# Altium schematic symbol library SCH - MCU - ATTINY - MICROCHIP ATTINY814-SSNRES SOIC14.SchLib: 1 symbol
Pins are listed as number, name and electrical type; pins without a type are passive.

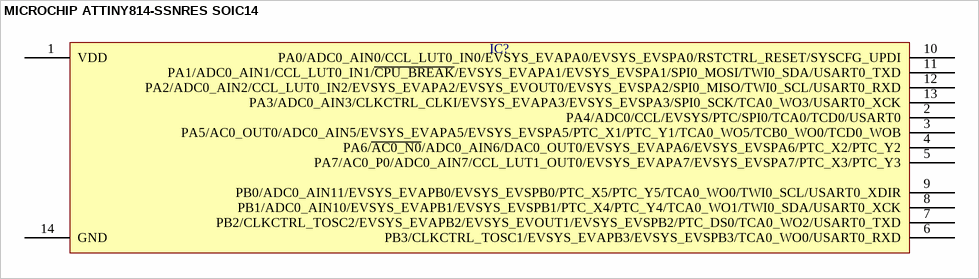
[diagram p0: symbol MICROCHIP ATTINY814-SSNRES SOIC14]

## MICROCHIP ATTINY814-SSNRES SOIC14
designator IC?  (value not drawn)
pins: 1 VDD, 2 PA4/ADC0/CCL/EVSYS/PTC/SPI0/TCA0/TCD0/USART0, 3 PA5/AC0_OUT0/ADC0_AIN5/EVSYS_EVAPA5/EVSYS_EVSPA5/PTC_X1/PTC_Y1/TCA0_WO5/TCB0_WO0/TCD0_WOB, 4 PA6/~{AC0_N0}/ADC0_AIN6/DAC0_OUT0/EVSYS_EVAPA6/EVSYS_EVSPA6/PTC_X2/PTC_Y2, 5 PA7/AC0_P0/ADC0_AIN7/CCL_LUT1_OUT0/EVSYS_EVAPA7/EVSYS_EVSPA7/PTC_X3/PTC_Y3, 6 PB3/CLKCTRL_TOSC1/EVSYS_EVAPB3/EVSYS_EVSPB3/TCA0_WO0/USART0_RXD, 7 PB2/CLKCTRL_TOSC2/EVSYS_EVAPB2/EVSYS_EVOUT1/EVSYS_EVSPB2/PTC_DS0/TCA0_WO2/USART0_TXD, 8 PB1/ADC0_AIN10/EVSYS_EVAPB1/EVSYS_EVSPB1/PTC_X4/PTC_Y4/TCA0_WO1/TWI0_SDA/USART0_XCK, 9 PB0/ADC0_AIN11/EVSYS_EVAPB0/EVSYS_EVSPB0/PTC_X5/PTC_Y5/TCA0_WO0/TWI0_SCL/USART0_XDIR, 10 PA0/ADC0_AIN0/CCL_LUT0_IN0/EVSYS_EVAPA0/EVSYS_EVSPA0/RSTCTRL_RESET/SYSCFG_UPDI, 11 PA1/ADC0_AIN1/CCL_LUT0_IN1/~{CPU_BREAK}/EVSYS_EVAPA1/EVSYS_EVSPA1/SPI0_MOSI/TWI0_SDA/USART0_TXD, 12 PA2/ADC0_AIN2/CCL_LUT0_IN2/EVSYS_EVAPA2/EVSYS_EVOUT0/EVSYS_EVSPA2/SPI0_MISO/TWI0_SCL/USART0_RXD, 13 PA3/ADC0_AIN3/CLKCTRL_CLKI/EVSYS_EVAPA3/EVSYS_EVSPA3/SPI0_SCK/TCA0_WO3/USART0_XCK, 14 GND